# EAGLE library part LT3748 (library dc-dc-regulators)
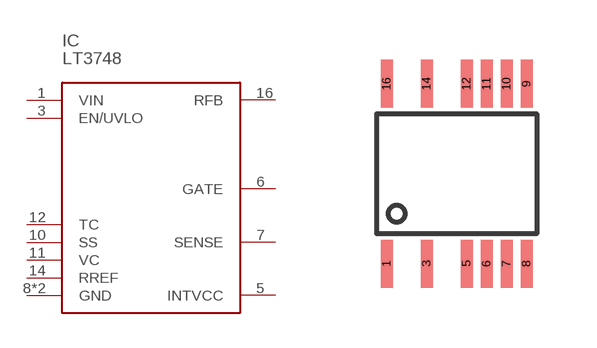
[diagram p4: symbol with the pads of MSOP16(12); footprint MSOP16(12)]

Designator prefix IC

## LT3748  [MSOP16(12)]
1  VIN
3  EN/UVLO
5  INTVCC
6  GATE
7  SENSE
8  GND
9  GND
10  SS
11  VC
12  TC
14  RREF
16  RFB

## Footprint MSOP16(12) (pad centres in mm)
smd 0.3 x 1.2: 1 -1.75,-2.25; 3 -0.75,-2.25; 5 0.25,-2.25; 6 0.75,-2.25; 7 1.25,-2.25; 8 1.75,-2.25; 9 1.75,2.25; 10 1.25,2.25; 11 0.75,2.25; 12 0.25,2.25; 14 -0.75,2.25; 16 -1.75,2.25